# Altium schematic symbol library ETL_RB.SCHLIB: 74 symbols
Pins are listed as number, name and electrical type; pins without a type are passive.

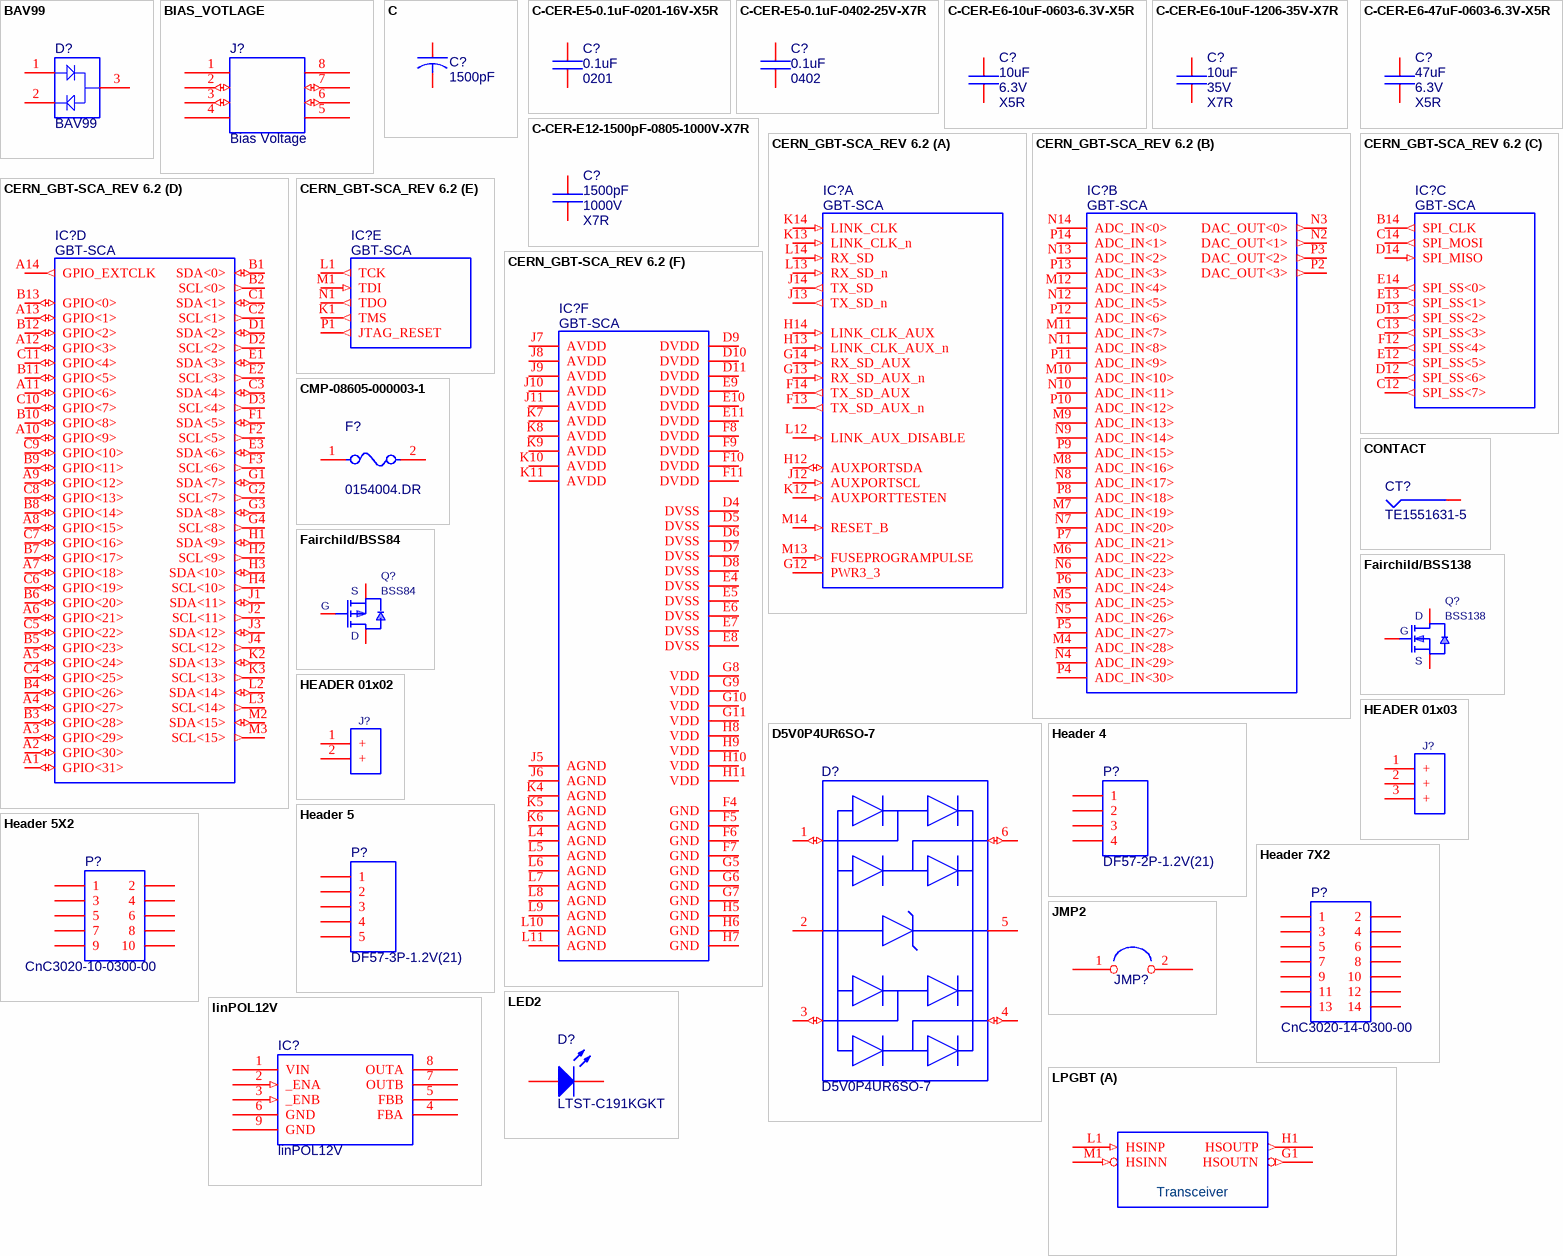
[diagram p0: symbols BAV99 to LPGBT]

## BAV99
designator D?
Silicon Switching Diode, SOT23, Reel, Green; Manufacturer: Infineon; Green: TRUE; Mounting Technology: Surface Mount; ComponentLink3URL: http://www.infineon.com/dgdl/smbta14_mmbta14.pdf?folderId=db3a30431441fb5d011445c30f210183&fileId=db3a30431441fb5d011445ef0201018c; PartNumber: BAV99; ComponentLink2Description: Datasheet; ComponentLink2URL: http://www.infineon.com/dgdl/bav99series.pdf?folderId=db3a30431400ef6801141b5844e103ea&fileId=db3a30431400ef6801141c1b237d042f; PackageVersion: Apr-08; PackageDescription: 3-Pin Small Outline Transistor Package, 1.3 x 2.9 mm Body, 0.95 mm Pitch; RevisionNote: Re-Activated Devices; ComponentLink1URL: http://www.infineon.com/; PackageReference: SOT23; ComponentLink1Description: Manufacturer URL; ComponentLink3Description: Package Specification; Packing: Reel; Manufacturer 1: Infineon; Manufacturer Part Number 1: BAV99
footprint INF-SOT23_N (SOT23, 3-Leads, Body 2.9x1.3 mm, Pitch 0.95 mm, IPC Medium Density)
footprint INF-SOT23_M (SOT23, 3-Leads, Body 2.9x1.3 mm, Pitch 0.95 mm, IPC Low Density)
footprint INF-SOT23_L (SOT23, 3-Leads, Body 2.9x1.3 mm, Pitch 0.95 mm, IPC High Density)
pins: 1 A1, 2 K2, 3 C

## BIAS_VOTLAGE
designator J?, comment Bias Voltage
footprint Bias_Voltage
pins: 1 (power), 2 (io), 3 (io), 4 (power), 5 (power), 6 (io), 7 (io), 8 (power)

## C
designator C?, comment value 1500pF  (hidden comment: C0805X7R102-152MNE)
CERAMIC CAPACITOR
footprint 1206
footprint CAPC3216N (Chip Capacitor, Body 3.2x1.6mm, IPC Medium Density)
footprint venkel0805
pins: 1, 2

## C-CER-E5-0.1uF-0201-16V-X5R
designator C?, comment Package: 0201  (hidden comment: 0.1uF)
GRM033R61C104KE84D; Voltage: 16V; TempCo: X5R; VALUE: 0.1uF
footprint C_0201_IPC
pins: 1, 2

## C-CER-E5-0.1uF-0402-25V-X7R
designator C?, comment 0.1uF  Package: 0402
GRM155R71E104ME14D; Voltage: 25V; TempCo: X7R
footprint C_0402_IPC_NOSILK
pins: 1, 2

## C-CER-E6-10uF-0603-6.3V-X5R
designator C?, comment TempCo: X5R  Voltage: 6.3V  (hidden comment: 10uF)
CAP CER 10UF 6.3V X5R 0603; Supplier 1: Digi-Key; Supplier Part Number 1: 490-16349-1-ND; VALUE: 10uF
footprint C_0603_IPC
pins: 1, 2

## C-CER-E6-10uF-1206-35V-X7R
designator C?, comment TempCo: X7R  Voltage: 35V  (hidden comment: 10uF)
CAP CER 10UF 35V X7R 1206; Supplier 1: Digi-Key; Supplier Part Number 1: 587-3007-1-ND; VALUE: 10uF
footprint C_1206_IPC (Chip Capacitor, 2-Leads, Body 3.27x1.60mm, IPC Low Density)
pins: 1, 2

## C-CER-E6-47uF-0603-6.3V-X5R
designator C?, comment 47uF  TempCo: X5R  Voltage: 6.3V
CAP CER 47UF 6.3V X5R 0603; Supplier 1: Arrow Electronics; Supplier Part Number 1: GRM188R60J476ME15D
footprint C_0603_IPC
pins: 1, 2

## C-CER-E12-1500pF-0805-1000V-X7R
designator C?, comment value 1500pF  TempCo: X7R  Voltage: 1000V  (hidden comment: C0805X7R102-152MNE)
1500 pF ±20% 1000V (1kV) Ceramic Capacitor X7R 0805 (2012 Metric); Tolerance: 20%
footprint C_0805_IPC
pins: 1, 2

## CERN_GBT-SCA_REV 6.2
designator IC?, comment GBT-SCA
The Slow Control Adapter ASIC for the GBT System; Device: GBT-SCA
footprint BGA196C80P14X14_1200X1200X170 (BGA, 0.80mm Pitch, Square; 196 Pin, 14 Columns X 14 Rows, 12.00mm X 12.00mm X 1.70mm H)
part A pins: F13 TX_SD_AUX_n (out), F14 TX_SD_AUX (out), G12 PWR3_3 (power), G13 RX_SD_AUX_n (in), G14 RX_SD_AUX (in), H12 AUXPORTSDA (io), H13 LINK_CLK_AUX_n (in), H14 LINK_CLK_AUX (in), J12 AUXPORTSCL (in), J13 TX_SD_n (out), J14 TX_SD (out), K12 AUXPORTTESTEN (in), K13 LINK_CLK_n (in), K14 LINK_CLK (in), L12 LINK_AUX_DISABLE (in), L13 RX_SD_n (in), L14 RX_SD (in), M13 FUSEPROGRAMPULSE (in), M14 RESET_B (in)
part B pins: M4 ADC_IN<28>, M5 ADC_IN<25>, M6 ADC_IN<22>, M7 ADC_IN<19>, M8 ADC_IN<16>, M9 ADC_IN<13>, M10 ADC_IN<10>, M11 ADC_IN<7>, M12 ADC_IN<4>, N2 DAC_OUT<1> (out), N3 DAC_OUT<0> (out), N4 ADC_IN<29>, N5 ADC_IN<26>, N6 ADC_IN<23>, N7 ADC_IN<20>, N8 ADC_IN<17>, N9 ADC_IN<14>, N10 ADC_IN<11>, N11 ADC_IN<8>, N12 ADC_IN<5>, N13 ADC_IN<2>, N14 ADC_IN<0>, P2 DAC_OUT<3> (out), P3 DAC_OUT<2> (out), P4 ADC_IN<30>, P5 ADC_IN<27>, P6 ADC_IN<24>, P7 ADC_IN<21>, P8 ADC_IN<18>, P9 ADC_IN<15>, P10 ADC_IN<12>, P11 ADC_IN<9>, P12 ADC_IN<6>, P13 ADC_IN<3>, P14 ADC_IN<1>
part C pins: B14 SPI_CLK (out), C12 SPI_SS<7> (out), C13 SPI_SS<3> (out), C14 SPI_MOSI (out), D12 SPI_SS<6> (out), D13 SPI_SS<2> (out), D14 SPI_MISO (in), E12 SPI_SS<5> (out), E13 SPI_SS<1> (out), E14 SPI_SS<0> (out), F12 SPI_SS<4> (out)
part D pins: A1 GPIO<31> (io), A2 GPIO<30> (io), A3 GPIO<29> (io), A4 GPIO<27> (io), A5 GPIO<24> (io), A6 GPIO<21> (io), A7 GPIO<18> (io), A8 GPIO<15> (io), A9 GPIO<12> (io), A10 GPIO<9> (io), A11 GPIO<6> (io), A12 GPIO<3> (io), A13 GPIO<1> (io), A14 GPIO_EXTCLK (out), B1 SDA<0> (io), B2 SCL<0> (out), B3 GPIO<28> (io), B4 GPIO<26> (io), B5 GPIO<23> (io), B6 GPIO<20> (io), B7 GPIO<17> (io), B8 GPIO<14> (io), B9 GPIO<11> (io), B10 GPIO<8> (io), B11 GPIO<5> (io), B12 GPIO<2> (io), B13 GPIO<0> (io), C1 SDA<1> (io), C2 SCL<1> (out), C3 SDA<4> (io), C4 GPIO<25> (io), C5 GPIO<22> (io), C6 GPIO<19> (io), C7 GPIO<16> (io), C8 GPIO<13> (io), C9 GPIO<10> (io), C10 GPIO<7> (io), C11 GPIO<4> (io), D1 SDA<2> (io), D2 SCL<2> (out), D3 SCL<4> (out), E1 SDA<3> (io), E2 SCL<3> (out), E3 SDA<6> (io), F1 SDA<5> (io), F2 SCL<5> (out), F3 SCL<6> (out), G1 SDA<7> (io), G2 SCL<7> (out), G3 SDA<8> (io), G4 SCL<8> (out), H1 SDA<9> (io), H2 SCL<9> (out), H3 SDA<10> (io), H4 SCL<10> (out), J1 SDA<11> (io), J2 SCL<11> (out), J3 SDA<12> (io), J4 SCL<12> (out), K2 SDA<13> (io), K3 SCL<13> (out), L2 SDA<14> (io), L3 SCL<14> (out), M2 SDA<15> (io), M3 SCL<15> (out)
part E pins: K1 TMS (out), L1 TCK (out), M1 TDI (in), N1 TDO (out), P1 JTAG_RESET (out)
part F pins: D4 DVSS (power), D5 DVSS (power), D6 DVSS (power), D7 DVSS (power), D8 DVSS (power), D9 DVDD (power), D10 DVDD (power), D11 DVDD (power), E4 DVSS (power), E5 DVSS (power), E6 DVSS (power), E7 DVSS (power), E8 DVSS (power), E9 DVDD (power), E10 DVDD (power), E11 DVDD (power), F4 GND (power), F5 GND (power), F6 GND (power), F7 GND (power), F8 DVDD (power), F9 DVDD (power), F10 DVDD (power), F11 DVDD (power), G5 GND (power), G6 GND (power), G7 GND (power), G8 VDD (power), G9 VDD (power), G10 VDD (power), G11 VDD (power), H5 GND (power), H6 GND (power), H7 GND (power), H8 VDD (power), H9 VDD (power), H10 VDD (power), H11 VDD (power), J5 AGND (power), J6 AGND (power), J7 AVDD (power), J8 AVDD (power), J9 AVDD (power), J10 AVDD (power), J11 AVDD (power), K4 AGND (power), K5 AGND (power), K6 AGND (power), K7 AVDD (power), K8 AVDD (power), K9 AVDD (power), K10 AVDD (power), K11 AVDD (power), L4 AGND (power), L5 AGND (power), L6 AGND (power), L7 AGND (power), L8 AGND (power), L9 AGND (power), L10 AGND (power), L11 AGND (power)

## CMP-08605-000003-1
designator F?, comment 0154004.DR
FUSE BRD MNT 4A 125VAC/VDC 2SMD; Manufacturer: Littelfuse; Fuse Blow Speed: Fast; Max Fuse Ac Voltage: 125V; Lead Free: Yes; Device Class L3: unset; Manufacturer Part Number: 0154004.DR; Device Class L2: Fuses; Package: 0154; ComponentLink2Description: Datasheet; Temperature Range Low: -55°C; Temperature Range High: +125°C; Device Class L1: Circuit Protection; Height: 3.81mm; Temperature: -55°C to +125°C; Mouser Description: Surface Mount Fuses Fuseblock w/ fuse 4A OMNI BLOK 154; Automotive: No; Digikey Description: FUSE BRD MNT 4A 125VAC/VDC 2SMD; RoHS: TRUE; Category: Fuse; Fuse Current: 4A; Max Fuse Dc Voltage: 125V; ComponentLink2URL: https://www.littelfuse.com/~/media/electronics/datasheets/fuses/littelfuse_fuse_154_154t_154l_154tl_datasheet.pdf.pdf; Octopart: https://octopart.com/0154004.dr-littelfuse-565861; Manufacturer 1: Littelfuse; Manufacturer Part Number 1: 0154004.DR
footprint FP-0154-MFG
pins: 1, 2

## CONTACT
designator CT?, comment TE1551631-5
footprint contact
pins: 1 (power)

## D5V0P4UR6SO-7
designator D?
TVS DIODE 3.3V 6V SOT26; Manufacturer: Diodes Inc.; Manufacturer 1: Diodes; Peak Pulse Power: 180W; Capacitance: 2.1pF; Value: 2.1pF; Standoff Height: 0.013mm; Breakdown Voltage: 4.5V; Direction: Unidirectional; Number Of Channels: 4; Peak Pulse Current: 45A; Octopart: https://octopart.com/d5v0p4ur6so-7-diodes+inc.-74221344; Temperature: -55°C to +85°C; ComponentLink2URL: https://www.diodes.com/assets/Datasheets/D5V0P4UR6SO.pdf; Height: 1.4mm; ComponentLink2Description: Datasheet; Device Class L3: unset; Manufacturer Part Number: D5V0P4UR6SO-7; Category: Diode; Reverse Standoff Voltage: 3.3V; Footprint Url: https://www.diodes.com/assets/Package-Files/SOT26-SC74R.pdf; Automotive: No; Temperature Range High: +85°C; Clamping Voltage: 6V; Digikey Description: TVS DIODE 3.3V 6V SOT26; RoHS: TRUE; Package: SOT26 (SC74R); Device Class L1: Circuit Protection; Lead Free: Yes; Temperature Range Low: -55°C; Device Class L2: TVS Diodes; Manufacturer Part Number 1: D5V0P4UR6SO-7
footprint FP-SOT26_SC74R-MFG
footprint FP-SOT26_SC74R-IPC_C
footprint FP-SOT26_SC74R-IPC_B
footprint FP-SOT26_SC74R-IPC_A
pins: 1 I/O 1 (io), 2 VSS (power), 3 I/O 2 (io), 4 I/O 3 (io), 5 VCC (power), 6 I/O 4 (io)

## Fairchild/BSS84
designator Q?, comment BSS84
Trans, pFET, -50V, -130mA, SOT-23; Manufacturer: ON Semiconductor; Manufacturer Part Number: BSS84LT1G; FET Type: MOSFET P-Channel, Metal Oxide; FET Feature: Standard; Drain to Source Voltage (Vdss): 50V; Current - Continuous Drain (Id) @ 25°C: 130mA (Ta); Rds On (Max) @ Id, Vgs: 10 Ohm @ 100mA, 5V; Vgs(th) (Max) @ Id: 2V @ 250µA; Input Capacitance (Ciss) @ Vds: 30pF @ 5V; Power - Max: 225mW; Supplier 1: Digi-Key; RoHS: RoHS Compliant; Category: Discrete Semiconductor Products; Stock 1: 95021; Pricing 1: 1=0.34, 10=0.281, 100=0.1491, 500=0.09804, 1000=0.0668 (USD); Packaging: Cut Tape (CT); Part Status: Active; Gate Charge (Qg) @ Vgs: -; Operating Temperature: -55°C ~ 150°C (TJ); Mounting Type: Surface Mount; Package / Case: TO-236-3, SC-59, SOT-23-3; Supplier Device Package: SOT-23-3 (TO-236); ComponentLink1URL: http://www.onsemi.com/pub_link/Collateral/BSS84LT1-D.PDF; ComponentLink1Description: http://www.onsemi.com/pub_link/Collateral/BSS84LT1-D.PDF; Supplier Part Number 1: BSS84LT1GOSCT-ND
footprint SOT23 (SOT23, 3-Leads, Body 2.92x2.37mm, Pitch 0.95mm, IPC Medium Density)
pins: 1 G, 2 S, 3 D

## Fairchild/BSS138
designator Q?, comment BSS138
Trans, nFet, 50V, 220mA, SOT-23; Manufacturer: Fairchild Semiconductor; FET Type: MOSFET N-Channel, Metal Oxide; FET Feature: Logic Level Gate; Current - Continuous Drain (Id) @ 25°C: 220mA (Ta); Rds On (Max) @ Id, Vgs: 3.5 Ohm @ 220mA, 10V; Vgs(th) (Max) @ Id: 1.5V @ 1mA; Gate Charge (Qg) @ Vgs: 2.4nC @ 10V; Input Capacitance (Ciss) @ Vds: 27pF @ 25V; Power - Max: 360mW; Supplier 1: Digi-Key; Manufacturer Part Number: BSS138; RoHS: RoHS Compliant; Category: Discrete Semiconductor Products; Stock 1: 524637; Pricing 1: 1=0.22, 10=0.178, 100=0.0945, 500=0.06214, 1000=0.04234 (USD); Packaging: Cut Tape (CT); Drain to Source Voltage (Vdss): 50V; Operating Temperature: -55°C ~ 150°C (TJ); Mounting Type: Surface Mount; Package / Case: TO-236-3, SC-59, SOT-23-3; Supplier Device Package: SOT-23-3; ComponentLink1URL: http://www.fairchildsemi.com/datasheets/BS/BSS138.pdf; ComponentLink1Description: http://www.fairchildsemi.com/datasheets/BS/BSS138.pdf; Supplier 2: Newark; Supplier Part Number 1: BSS138CT-ND; Supplier Part Number 2: 58K8769
footprint SOT23 (SOT23, 3-Leads, Body 2.92x2.37mm, Pitch 0.95mm, IPC Medium Density)
pins: 1 G, 2 S, 3 D

## HEADER 01x02
designator J?  (value not drawn)
Header, 01x02, 100 mil, PTH
footprint HEADER 01x02
pins: 1 +, 2 +

## HEADER 01x03
designator J?  (value not drawn)
Header, 01x03, 100 mil, PTH
footprint HEADER 01x03
pins: 1 +, 2 +, 3 +

## Header 4
designator P?, comment DF57-2P-1.2V(21)
Header, 4-Pin; LatestRevisionDate: 17-Jul-2002; LatestRevisionNote: Re-released for DXP Platform.; Publisher: Altium Limited
footprint HDR1X4 (Connector; Header; 4 Position)
signal-integrity model Connector
footprint BF57-2 (Footprint not found)
footprint DF57-2
pins: 1, 2, 3, 4

## Header 5
designator P?, comment DF57-3P-1.2V(21)
Header, 5-Pin; LatestRevisionDate: 17-Jul-2002; LatestRevisionNote: Re-released for DXP Platform.; Publisher: Altium Limited
footprint HDR1X5 (Connector; Header; 5 Position)
signal-integrity model Connector
footprint DF57-3
footprint df52-3
footprint DF57-3
pins: 1, 2, 3, 4, 5

## Header 5X2
designator P?, comment CnC3020-10-0300-00
Header, 5-Pin, Dual row; LatestRevisionDate: 17-Jul-2002; LatestRevisionNote: Re-released for DXP Platform.; Publisher: Altium Limited
footprint HDR2X5 (Connector; Header; 5x2 Position)
signal-integrity model Connector
footprint cnc10
pins: 1, 2, 3, 4, 5, 6, 7, 8, 9, 10

## Header 7X2
designator P?, comment CnC3020-14-0300-00
Header, 7-Pin, Dual row; LatestRevisionDate: 17-Jul-2002; LatestRevisionNote: Re-released for DXP Platform.; Publisher: Altium Limited
footprint HDR2X7 (Connector; Header; 7x2 Position)
signal-integrity model Connector
footprint cnc14
pins: 1, 2, 3, 4, 5, 6, 7, 8, 9, 10, 11, 12, 13, 14

## JMP2
designator JMP?, comment Not a component, printed on PCB  (value not drawn)  (no BOM)
printed on PCB
footprint JMP2
footprint JMP2B
footprint JMP2PCB
pins: 1, 2

## LED2
designator D?, comment LTST-C191KGKT
Typical RED, GREEN, YELLOW, AMBER GaAs LED; Published: 8-Jun-2000; LatestRevisionDate: 17-Jul-2002; LatestRevisionNote: Re-released for DXP Platform.; PackageVersion: Feb-2002; PackageReference: 3.2X1.6X1.1; Publisher: Altium Limited; PackageDescription: SM LED; 2 Flat Leads
footprint 3.2X1.6X1.1 (SMT LED; 2 Flat Leads)
simulation model LED2 (Diode)
footprint LED_RED (LTST-C194KRKT)
pins: 1 A, 2 K

## linPOL12V
designator IC?
footprint WDFNX208
pins: 1 VIN (power), 2 _ENA (in), 3 _ENB (in), 4 FBA, 5 FBB, 6 GND (power), 7 OUTB (power), 8 OUTA (power), 9 GND (power)

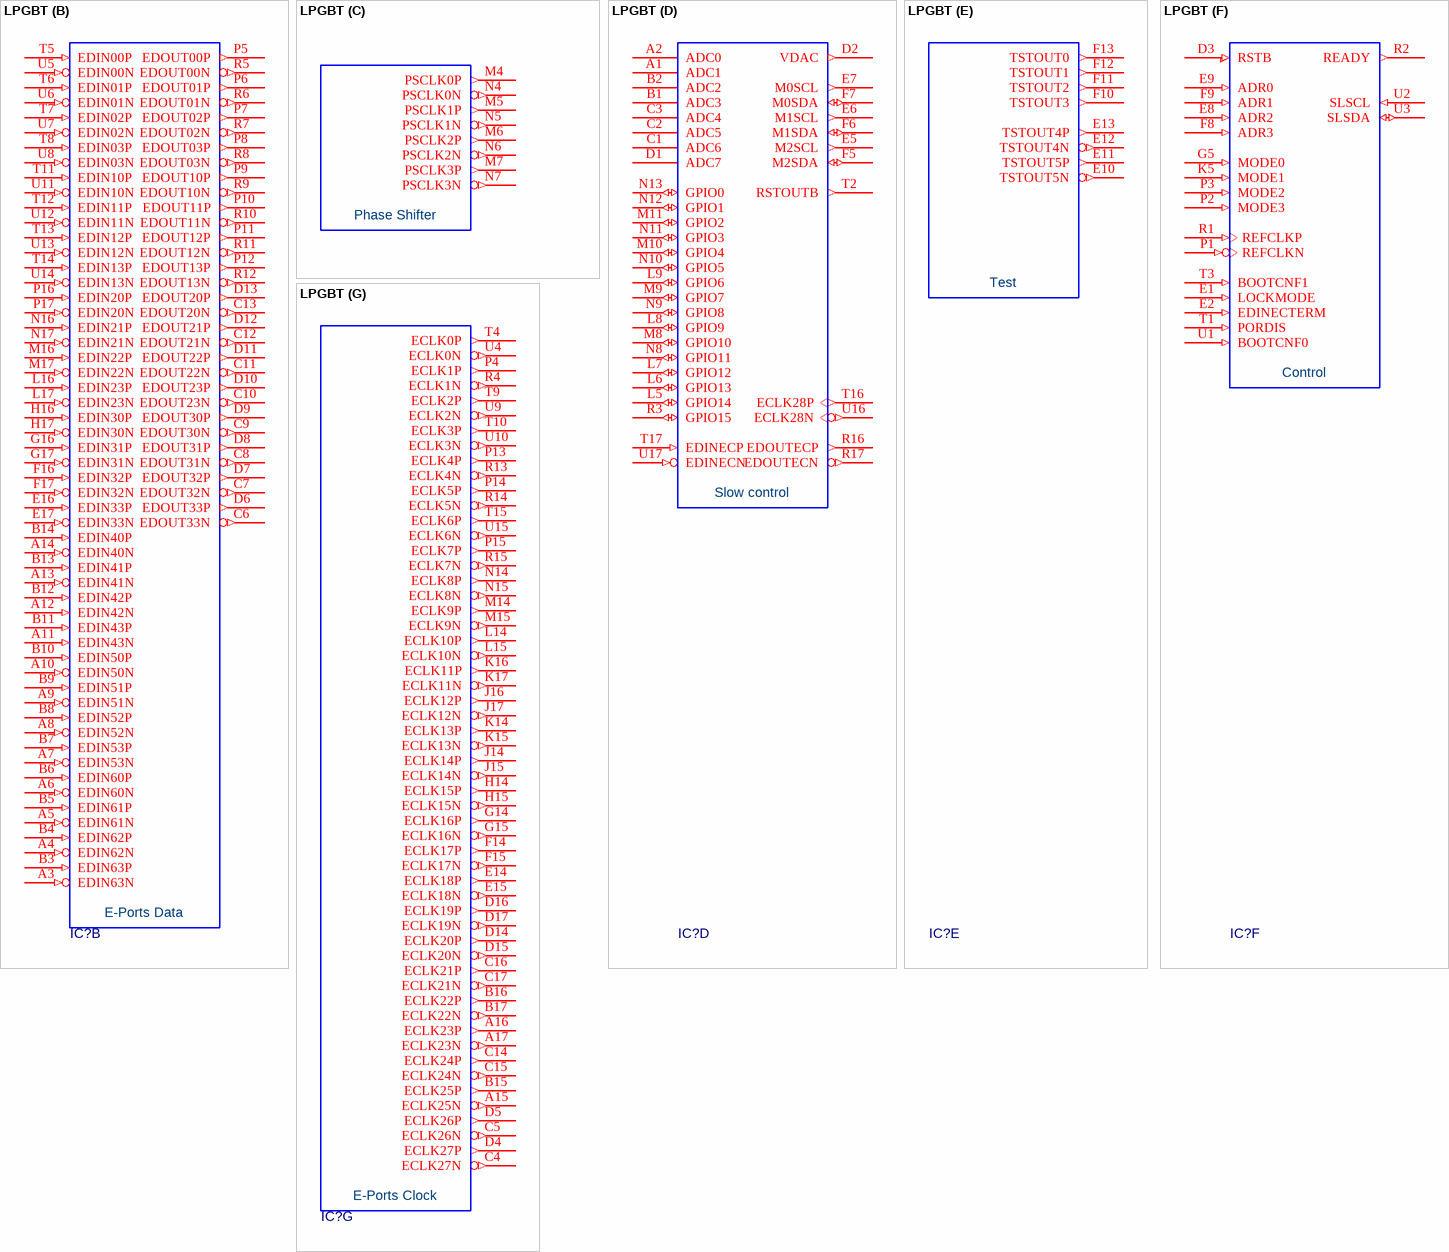
[diagram p1: symbol LPGBT]

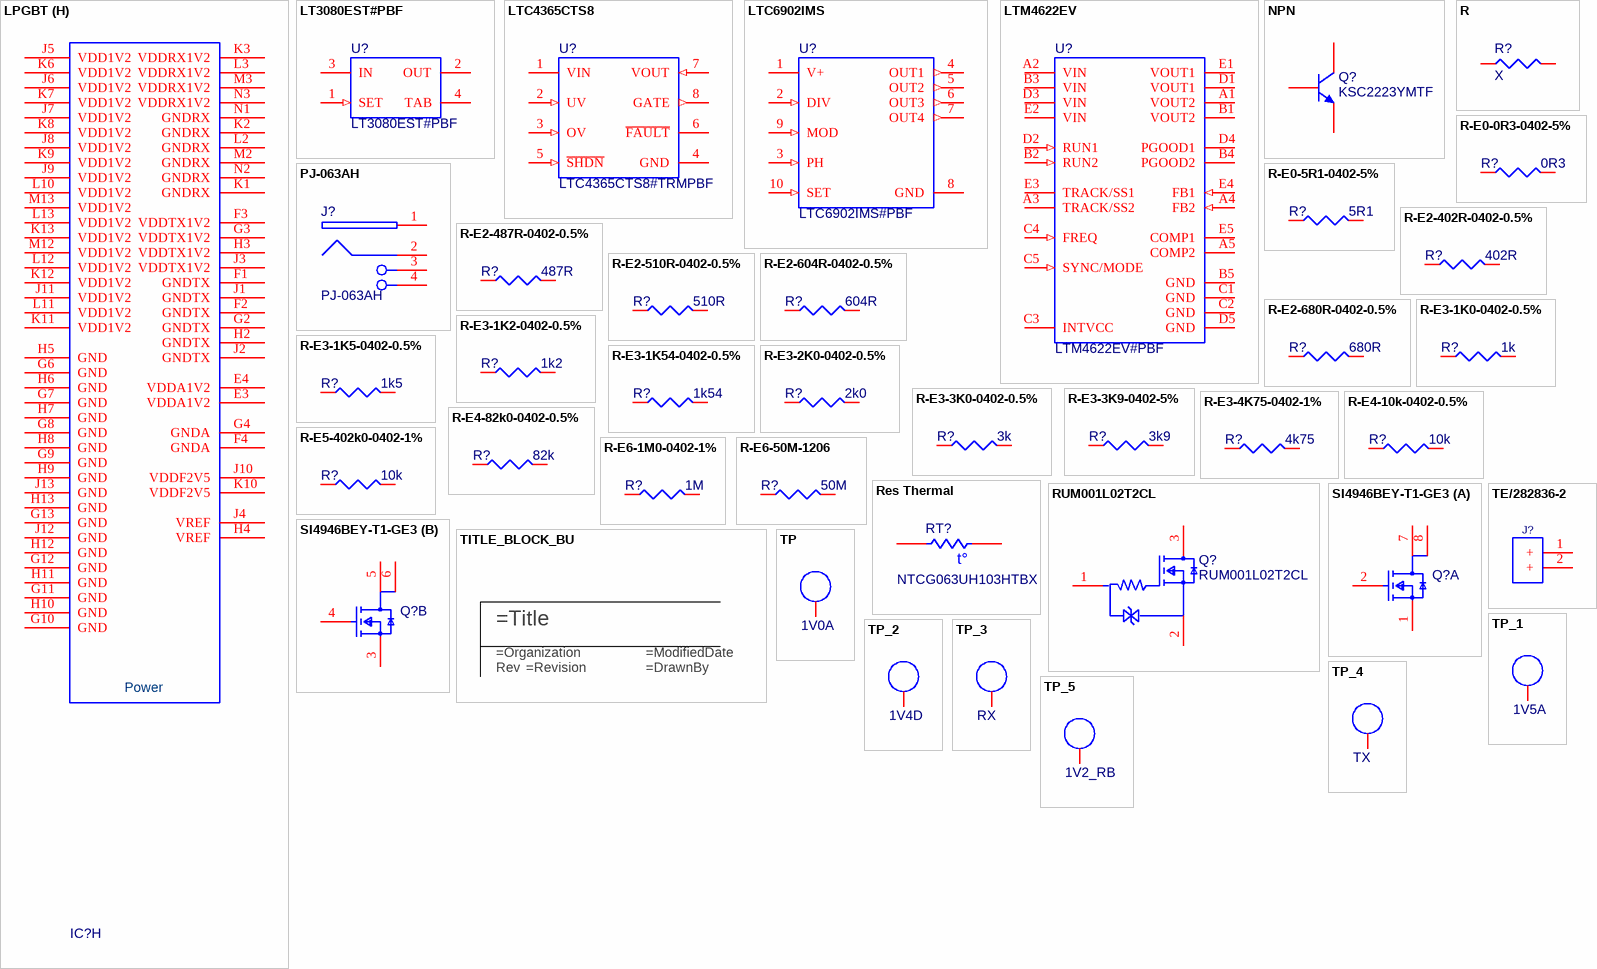
[diagram p2: symbols LPGBT to TP_5]

## LPGBT
designator IC?  (value not drawn)
Low Power Gigabit Transceiver; Manufacturer: CERN; Pinout Version: 180226; Bonding: No; Device: LPGBT; Manufacturer Part Number: LPGBT; SMD: Yes; Mounted: Yes; LatestRevisionDate: 26.10.2018; PackageDescription: BGA, 289-Leads, Body 9.00x9.00mmx1.28mm, Pitch 0.50mm; Part Description: Low Power Gigabit Transceiver; Case: BGA289; Part Number: LPGBT; Pin Count: 289; Socket: No; Component Kind: Standard; Component Type: Standard; Footprint: BGA289C50P17X17_900X900X128
footprint BGA289C50P17X17_900X900X128 (BGA, 289-Leads, Body 9.00x9.00mmx1.28mm, Pitch 0.50mm)
footprint BGA289X17
part A pins: G1 HSOUTN (out) "Transceiver Output", H1 HSOUTP (out) "Transceiver Output", L1 HSINP (in) "Transceiver Input", M1 HSINN (in) "Transceiver Input"
part B pins: A3 EDIN63N (in), A4 EDIN62N (in), A5 EDIN61N (in), A6 EDIN60N (in), A7 EDIN53N (in), A8 EDIN52N (in), A9 EDIN51N (in), A10 EDIN50N (in), A11 EDIN43N (in), A12 EDIN42N (in), A13 EDIN41N (in), A14 EDIN40N (in), B3 EDIN63P (in), B4 EDIN62P (in), B5 EDIN61P (in), B6 EDIN60P (in), B7 EDIN53P (in), B8 EDIN52P (in), B9 EDIN51P (in), B10 EDIN50P (in), B11 EDIN43P (in), B12 EDIN42P (in), B13 EDIN41P (in), B14 EDIN40P (in), C6 EDOUT33N (out), C7 EDOUT32N (out), C8 EDOUT31N (out), C9 EDOUT30N (out), C10 EDOUT23N (out), C11 EDOUT22N (out), C12 EDOUT21N (out), C13 EDOUT20N (out), D6 EDOUT33P (out), D7 EDOUT32P (out), D8 EDOUT31P (out), D9 EDOUT30P (out), D10 EDOUT23P (out), D11 EDOUT22P (out), D12 EDOUT21P (out), D13 EDOUT20P (out), E16 EDIN33P (in), E17 EDIN33N (in), F16 EDIN32P (in), F17 EDIN32N (in), G16 EDIN31P (in), G17 EDIN31N (in), H16 EDIN30P (in), H17 EDIN30N (in), L16 EDIN23P (in), L17 EDIN23N (in), M16 EDIN22P (in), M17 EDIN22N (in), N16 EDIN21P (in), N17 EDIN21N (in), P5 EDOUT00P (out), P6 EDOUT01P (out), P7 EDOUT02P (out), P8 EDOUT03P (out), P9 EDOUT10P (out), P10 EDOUT11P (out), P11 EDOUT12P (out), P12 EDOUT13P (out), P16 EDIN20P (in), P17 EDIN20N (in), R5 EDOUT00N (out), R6 EDOUT01N (out), R7 EDOUT02N (out), R8 EDOUT03N (out), R9 EDOUT10N (out), R10 EDOUT11N (out), R11 EDOUT12N (out), R12 EDOUT13N (out), T5 EDIN00P (in), T6 EDIN01P (in), T7 EDIN02P (in), T8 EDIN03P (in), T11 EDIN10P (in), T12 EDIN11P (in), T13 EDIN12P (in), T14 EDIN13P (in), U5 EDIN00N (in), U6 EDIN01N (in), U7 EDIN02N (in), U8 EDIN03N (in), U11 EDIN10N (in), U12 EDIN11N (in), U13 EDIN12N (in), U14 EDIN13N (in)
part C pins: M4 PSCLK0P (out) "Phase shifter", M5 PSCLK1P (out) "Phase shifter", M6 PSCLK2P (out) "Phase shifter", M7 PSCLK3P (out) "Phase shifter", N4 PSCLK0N (out) "Phase shifter", N5 PSCLK1N (out) "Phase shifter", N6 PSCLK2N (out) "Phase shifter", N7 PSCLK3N (out) "Phase shifter"
part D pins: A1 ADC1 "ADC Input", A2 ADC0 "ADC Input", B1 ADC3 "ADC Input", B2 ADC2 "ADC Input", C1 ADC6 "ADC Input", C2 ADC5 "ADC Input", C3 ADC4 "ADC Input", D1 ADC7 "ADC Input", D2 VDAC (out) "DAC output", E5 M2SCL (out) "I2C Master", E6 M1SCL (out) "I2C Master", E7 M0SCL (out) "I2C Master", F5 M2SDA (io) "I2C Master", F6 M1SDA (io) "I2C Master", F7 M0SDA (io) "I2C Master", L5 GPIO14 (io), L6 GPIO13 (io), L7 GPIO12 (io), L8 GPIO9 (io), L9 GPIO6 (io), M8 GPIO10 (io), M9 GPIO7 (io), M10 GPIO4 (io), M11 GPIO2 (io), N8 GPIO11 (io), N9 GPIO8 (io), N10 GPIO5 (io), N11 GPIO3 (io), N12 GPIO1 (io), N13 GPIO0 (io), R3 GPIO15 (io), R16 EDOUTECP (out), R17 EDOUTECN (out), T2 RSTOUTB (out), T16 ECLK28P (out), T17 EDINECP (in), U16 ECLK28N (out), U17 EDINECN (in)
part E pins: E10 TSTOUT5N (out), E11 TSTOUT5P (out), E12 TSTOUT4N (out), E13 TSTOUT4P (out), F10 TSTOUT3 (out), F11 TSTOUT2 (out), F12 TSTOUT1 (out), F13 TSTOUT0 (out)
part F pins: D3 RSTB (in) "Reset", E1 LOCKMODE (in), E2 EDINECTERM (in), E8 ADR2 (in), E9 ADR0 (in), F8 ADR3 (in), F9 ADR1 (in), G5 MODE0 (in), K5 MODE1 (in), P1 REFCLKN (in), P2 MODE3 (in), P3 MODE2 (in), R1 REFCLKP (in), R2 READY (out), T1 PORDIS (in), T3 BOOTCNF1 (in), U1 BOOTCNF0 (in), U2 SLSCL (in) "I2C Slave", U3 SLSDA (io) "I2C Slave"
part G pins: A15 ECLK25N (out), A16 ECLK23P (out), A17 ECLK23N (out), B15 ECLK25P (out), B16 ECLK22P (out), B17 ECLK22N (out), C4 ECLK27N (out), C5 ECLK26N (out), C14 ECLK24P (out), C15 ECLK24N (out), C16 ECLK21P (out), C17 ECLK21N (out), D4 ECLK27P (out), D5 ECLK26P (out), D14 ECLK20P (out), D15 ECLK20N (out), D16 ECLK19P (out), D17 ECLK19N (out), E14 ECLK18P (out), E15 ECLK18N (out), F14 ECLK17P (out), F15 ECLK17N (out), G14 ECLK16P (out), G15 ECLK16N (out), H14 ECLK15P (out), H15 ECLK15N (out), J14 ECLK14P (out), J15 ECLK14N (out), J16 ECLK12P (out), J17 ECLK12N (out), K14 ECLK13P (out), K15 ECLK13N (out), K16 ECLK11P (out), K17 ECLK11N (out), L14 ECLK10P (out), L15 ECLK10N (out), M14 ECLK9P (out), M15 ECLK9N (out), N14 ECLK8P (out), N15 ECLK8N (out), P4 ECLK1P (out), P13 ECLK4P (out), P14 ECLK5P (out), P15 ECLK7P (out), R4 ECLK1N (out), R13 ECLK4N (out), R14 ECLK5N (out), R15 ECLK7N (out), T4 ECLK0P (out), T9 ECLK2P (out), T10 ECLK3P (out), T15 ECLK6P (out), U4 ECLK0N (out), U9 ECLK2N (out), U10 ECLK3N (out), U15 ECLK6N (out)
part H pins: E3 VDDA1V2 (power) "ADC supply", E4 VDDA1V2 (power) "ADC supply", F1 GNDTX (power) "Transmitter reference", F2 GNDTX (power) "Transmitter reference", F3 VDDTX1V2 (power) "Transmitter supply", F4 GNDA (power) "ADC reference", G2 GNDTX (power) "Transmitter reference", G3 VDDTX1V2 (power) "Transmitter supply", G4 GNDA (power) "ADC reference", G6 GND (power) "Core reference", G7 GND (power) "Core reference", G8 GND (power) "Core reference", G9 GND (power) "Core reference", G10 GND (power) "I/O reference", G11 GND (power) "I/O reference", G12 GND (power) "I/O reference", G13 GND (power) "I/O reference", H2 GNDTX (power) "Transmitter reference", H3 VDDTX1V2 (power) "Transmitter supply", H4 VREF (power) "ADC reference", H5 GND (power) "Core reference", H6 GND (power) "Core reference", H7 GND (power) "Core reference", H8 GND (power) "Core reference", H9 GND (power) "Core reference", H10 GND (power) "I/O reference", H11 GND (power) "I/O reference", H12 GND (power) "I/O reference", H13 GND (power) "I/O reference", J1 GNDTX (power) "Transmitter reference", J2 GNDTX (power) "Transmitter reference", J3 VDDTX1V2 (power) "Transmitter supply", J4 VREF (power) "ADC reference", J5 VDD1V2 (power) "Core supply", J6 VDD1V2 (power) "Core supply", J7 VDD1V2 (power) "Core supply", J8 VDD1V2 (power) "Core supply", J9 VDD1V2 (power) "Core supply", J10 VDDF2V5 (power) "Efuse supply", J11 VDD1V2 (power) "I/O supply", J12 GND (power) "I/O reference", J13 GND (power) "I/O reference", K1 GNDRX (power) "Receiver reference", K2 GNDRX (power) "Receiver reference", K3 VDDRX1V2 (power) "Receiver supply", K6 VDD1V2 (power) "Core supply", K7 VDD1V2 (power) "Core supply", K8 VDD1V2 (power) "Core supply", K9 VDD1V2 (power) "Core supply", K10 VDDF2V5 (power) "Efuse supply", K11 VDD1V2 (power) "I/O supply", K12 VDD1V2 (power) "I/O supply", K13 VDD1V2 (power) "I/O supply", L2 GNDRX (power) "Receiver reference", L3 VDDRX1V2 (power) "Receiver supply", L10 VDD1V2 (power) "I/O supply", L11 VDD1V2 (power) "I/O supply", L12 VDD1V2 (power) "I/O supply", L13 VDD1V2 (power) "I/O supply", M2 GNDRX (power) "Receiver reference", M3 VDDRX1V2 (power) "Receiver supply", M12 VDD1V2 (power) "I/O supply", M13 VDD1V2 (power) "I/O supply", N1 GNDRX (power) "Receiver reference", N2 GNDRX (power) "Receiver reference", N3 VDDRX1V2 (power) "Receiver supply"
part A text: Transceiver
part B text: E-Ports Data
part C text: Phase Shifter
part D text: Slow control
part E text: Test
part F text: Control
part G text: E-Ports Clock
part H text: Power

## LT3080EST#PBF
designator U?
Adjustable 1.1 A Single Resistor Low Dropout Regulator, 0.3 mA Isupply, 3-pin SOT223 (ST-3), -40 to 125 degC, Pb-Free; Manufacturer: Linear Technology; Manufacturer 1: Analog Devices / Linear Technology; Initial Accuracy(%): 1; Vin Max(V): 36; Vin Min(V): 1.2; Extended Temp: E, I; Isupply(mA): 0.3; Mounting Technology: Surface Mount; DatasheetVersion: Rev. F; ComponentLink1URL: http://www.linear.com/; PartNumber: LT3080EST#PBF; ComponentLink2Description: Datasheet; ComponentLink3URL: http://cds.linear.com/docs/en/packaging/SOT_3_05-08-1630.pdf; PackageDescription: 3-Pin Plastic SOT-223, Body 3.505 x 6.505 mm, Pitch 2.3 mm; PackageVersion: Jun-10; ComponentLink2URL: http://cds.linear.com/docs/en/datasheet/3080fc.pdf; RoHS: TRUE; ComponentLink3Description: Package Specification; PackageReference: ST-3; ComponentLink1Description: Manufacturer URL; Manufacturer Part Number 1: LT3080EST#PBF
footprint LT-ST-3-SOT-223_N (SOT223, 4-Leads, Body 6.505x3.505mm, Pitch 2.3mm, IPC Medium Density)
footprint LT-ST-3-SOT-223_M (SOT223, 4-Leads, Body 6.505x3.505mm, Pitch 2.3mm, IPC Low Density)
footprint LT-ST-3-SOT-223_L (SOT223, 4-Leads, Body 6.505x3.505mm, Pitch 2.3mm, IPC High Density)
pins: 1 SET (in) "This pin is the error amplifier’s noninverting input and also sets the operating bias point of the circuit. A fixed 10uA current source flows out of this pin. Two resistors program IOUT as a function of the resistor rati(See Datasheet)", 2 OUT (power) "This is the power output of the device. The minimum current source value to which the device can be set is 0.5mA or the device will not regulate.", 3 IN (power) "This pin supplies power to bias internal circuitry and supply output load current. For the device to operate properly and regulate, the voltage on this pin must be 1.2V to 1.4V above the OUT pin (depending on output load (See Datasheet)", 4 TAB (power)

## LTC4365CTS8
designator U?, comment LTC4365CTS8#TRMPBF
UV, OV and Reverse Supply Protection Controller, 2.5 to 34 V Vin, 8-pin SOT23 (TS8-8), 0 to 70 degC, Pb-Free, Mini Tape and Reel; Manufacturer: Linear Technology; Manufacturer 1: Analog Devices / Linear Technology; Active Limiting: no; Circuit Breakers(#): 1; Fault: yes; Extended Temp: C, I, H; PackageVersion: Rev. A, 08/2010; ComponentLink2URL: http://cds.linear.com/docs/en/datasheet/4365f.pdf; Mounting Technology: Surface Mount; PackageReference: TS8-8; Reset: no; Foldback: no; ComponentLink1URL: http://www.linear.com/; ComponentLink3Description: Package Specification; Power Good: no; ComponentLink3URL: http://cds.linear.com/docs/en/packaging/SOT_8_05-08-1637.pdf; Fast Comparator: no; PackageDescription: 8-Pin Plastic TSOT-23, Body 2.9 x 1.63 mm, Pitch 0.65 mm; Packing: Mini Tape and Reel; PartNumber: LTC4365CTS8#TRMPBF; ComponentLink1Description: Manufacturer URL; ComponentLink2Description: Datasheet; Vin Range: 2.5 to 34 V; Code_JEDEC: MO-193; RoHS: TRUE; Manufacturer Part Number 1: LTC4365CTS8#TRMPBF
footprint LT-TS8-8-TSOT-23_V (SOT23, 8-Leads, Body 2.9x1.75mm, Pitch 0.65mm)
pins: 1 VIN (power) "Power Supply Input. Maximum protection range: -40V to 60V. Operating range: 2.5V to 34V.", 2 UV (in) "Undervoltage Comparator Input. Connect this pin to an external resistive divider to set the desired VIN undervoltage fault threshold. Input to an accurate, fast (1us) comparator with a 0.5V falling threshold and 25mV of (See Datasheet)", 3 OV (in) "Overvoltage Comparator Input. Connect this pin to an external resistive divider to set the desired VIN overvoltage fault threshold. Input to an accurate, fast (1us) comparator with a 0.5V rising threshold and 25mV of (See Datasheet)", 4 GND (power) "Device Ground", 5 ~{SHDN} (in) "Shutdown Control Input. S\H\D\N\ high enables the GATE charge pump which in turn enhances the gate of an external N-channel MOSFET. A low on S\H\D\N\ generates a pull down on the GATE output with a 90uA current sink and (See Datasheet)", 6 ~{FAULT} (oc) "Fault Indication Output. This high voltage open drain output is pulled low if UV is below its monitor threshold, if OV is above its monitor threshold, if S\H\D\N\ is low, or if VIN has not risen above VIN(UVLO).", 7 VOUT (in) "Output Voltage Sense Input. This pin senses the voltage at the output side of the external N-channel MOSFET. The GATE charge pump voltage is referenced to VOUT. It is used as the charge pump input when VOUT is greater than (See Datasheet)", 8 GATE (out) "Gate Drive Output for External N-channel MOSFETs. An internal charge pump provides 20uA of pull-up current and up to 9.8V of enhancement to the gate of an external N-channel MOSFET When turned off, GATE is pulled just below (See Datasheet)"

## LTC6902IMS
designator U?, comment LTC6902IMS#PBF
IC OSC SILICON PROG 10MSOP; Manufacturer: Analog Devices; Manufacturer 1: Analog Devices / Linear Technology; Min Supply Voltage: 2.7V; Standoff Height: 0.0508mm; Max Supply Voltage: 5.5V; Number Of Timers/Counters: 1; Frequency: 20MHz; Max Junction Temp: +150°C; Nominal Supply Current: 0.2-2.5mA; Automotive: No; Temperature Range Low: -40°C; Footprint Url: https://www.analog.com/media/en/package-pcb-resources/package/pkg_pdf/ltc-legacy-msop/05081661_F_MS.pdf; Package: MS-10-05-08-1661; ComponentLink2Description: Datasheet; Category: IC; ComponentLink2URL: https://www.analog.com/media/en/technical-documentation/data-sheets/6902f.pdf; RoHS: TRUE; Device Class L2: Clock and Timing; Temperature: -40°C to +85°C; Temperature Range High: +85°C; Lead Free: Yes; Device Class L1: Integrated Circuits (ICs); Ipc Land Pattern Name: SOP50P490X110-10; Height: 1.1mm; Device Class L3: Timers and Oscillators; Manufacturer Part Number: LTC6902IMS#PBF; Digikey Description: IC OSC SILICON PROG 10MSOP; Octopart: https://octopart.com/ltc6902ims%23pbf-analog+devices-88320276; Manufacturer Part Number 1: LTC6902IMS#PBF
footprint FP-MS-10-05-08-1661-MFG
footprint FP-MS-10-05-08-1661-IPC_C
footprint FP-MS-10-05-08-1661-IPC_B
footprint FP-MS-10-05-08-1661-IPC_A
pins: 1 V+ (power), 2 DIV (in), 3 PH (in), 4 OUT1 (out), 5 OUT2 (out), 6 OUT3 (out), 7 OUT4 (out), 8 GND (power), 9 MOD (in), 10 SET (in)

## LTM4622EV
designator U?, comment LTM4622EV#PBF
Dual Ultrathin Step-Down DC/DC uModule Regulator, 2.5 A, 3.6 to 20 V, -40 to 125 degC, 25-Pin LGA, RoHS, Tray; Manufacturer: LinearTechnology; Manufacturer 1: Linear Technology/Analog Devices; Voltage - Input (Min): 3.6V; Voltage - Output 1: 0.6~5.5V; Package Version: Rev. 0, 06/2013; Current - Output (Max): 2.5A; Number of Outputs: 1; Voltage - Input (Max): 20V; Type: Non-IsolatedPoLModule; Power (Watts) - Max: -; Mounting Technology: SurfaceMount; Applications: ITE(Commercial); Series: µModule®; Category: PowerSupplies-BoardMount; Package Description: 25-Pin LGA, Body 6.25 x 6.25 mm, Pitch 1.27 mm; Package / Case: 25-LGA; Size / Dimension: 0.25"Lx0.25"Wx0.07"H(6.3mmx6.3mmx1.8mm); Family: DCDCConverters; Mounting Type: SurfaceMount; Datasheet Version: Rev. B, 01/2016; Manufacturer URL: http://www.linear.com/; Operating Temperature: -40°C~125°C; Efficiency: -; Voltage - Output 2: -; Power (Watts) - Manufacture Series: -; Features: OCP,OTP,OVP; Packaging: Tray; Package URL: http://www.linear.com/docs/43379; Package Reference: LGA-25; Datasheet URL: http://cds.linear.com/docs/en/datasheet/4622fb.pdf; Voltage - Isolation: -; Voltage - Output 3: -; Manufacturer Part Number 1: LTM4622EV#PBF
footprint LT-LGA-25-6250X6250X1820_V (LGA, 25-Leads, Body 6.25x6.25mm, Pitch 1.27mm)
pins: A1 VOUT2 (power) "Power Output Pins. Apply output load between these pins and GND pins. Recommend placing output decoupling capacitance directly between these pins and GND pins.", A2 VIN (power) "Power Input Pins. Apply input voltage between these pins and GND pins. Recommend placing input decoupling capacitance directly between VIN pins and GND pins.", A3 TRACK/SS2, A4 FB2 (in) "The Negative Input of the Error Amplifier. Internally, this pin is connected to VOUT with a 60.4k precision resistor. Different output voltages can be programmed with an additional resistor between the FB and SGND pins. (See (See Datasheet)", A5 COMP2 "Current Control Threshold and Error Amplifier Compensation Point. The current comparator’s trip threshold is linearly proportional to this voltage, whose normal range is from 0.3V to 1.8V. Tie the COMP pins together fo(Se(See Datasheet)", B1 VOUT2 (power) "Power Output Pins. Apply output load between these pins and GND pins. Recommend placing output decoupling capacitance directly between these pins and GND pins.", B2 RUN2 (in) "Run Control Input of the Switching Mode Regulator. Enables chip operation by tying RUN above 1.2V. Pulling it below 1.1V shuts down the part. Do not leave floating.", B3 VIN (power) "Power Input Pins. Apply input voltage between these pins and GND pins. Recommend placing input decoupling capacitance directly between VIN pins and GND pins.", B4 PGOOD2 (oc) "Output Power Good with Open-Drain Logic. PGOOD is pulled to ground when the voltage on the FB pin is not within +/-10% of the internal 0.6V reference.", B5 GND (power) "Power Ground Pins for Both Input and Output Returns.", C1 GND (power) "Power Ground Pins for Both Input and Output Returns.", C2 GND (power) "Power Ground Pins for Both Input and Output Returns.", C3 INTVCC (power) "Internal 3.3V Regulator Output. The internal power drivers and control circuits are powered from this voltage. This pin is internally decoupled to GND with a 1uF low ESR ceramic capacitor", C4 FREQ (in) "Frequency is set internally to 1MHz. An external resistor can be placed from this pin to SGND to increase frequency, or from this pin to INTVCC to reduce frequency. See the Applications Information section for frequency (See (See Datasheet)", C5 SYNC/MODE (in), D1 VOUT1 (power) "Power Output Pins. Apply output load between these pins and GND pins. Recommend placing output decoupling capacitance directly between these pins and GND pins.", D2 RUN1 (in) "Run Control Input of the Switching Mode Regulator. Enables chip operation by tying RUN above 1.2V. Pulling it below 1.1V shuts down the part. Do not leave floating.", D3 VIN (power) "Power Input Pins. Apply input voltage between these pins and GND pins. Recommend placing input decoupling capacitance directly between VIN pins and GND pins.", D4 PGOOD1 (oc) "Output Power Good with Open-Drain Logic. PGOOD is pulled to ground when the voltage on the FB pin is not within +/-10% of the internal 0.6V reference.", D5 GND (power) "Power Ground Pins for Both Input and Output Returns.", E1 VOUT1 (power) "Power Output Pins. Apply output load between these pins and GND pins. Recommend placing output decoupling capacitance directly between these pins and GND pins.", E2 VIN (power) "Power Input Pins. Apply input voltage between these pins and GND pins. Recommend placing input decoupling capacitance directly between VIN pins and GND pins.", E3 TRACK/SS1, E4 FB1 (in) "The Negative Input of the Error Amplifier. Internally, this pin is connected to VOUT with a 60.4k precision resistor. Different output voltages can be programmed with an additional resistor between the FB and SGND pins. (See (See Datasheet)", E5 COMP1 "Current Control Threshold and Error Amplifier Compensation Point. The current comparator’s trip threshold is linearly proportional to this voltage, whose normal range is from 0.3V to 1.8V. Tie the COMP pins together fo(Se(See Datasheet)"

## NPN
designator Q?, comment KSC2223YMTF
NPN Bipolar Transistor; Published: 8-Jun-2000; LatestRevisionDate: 17-Jul-2002; LatestRevisionNote: Re-released for DXP Platform.; PackageReference: TO-226-AA; Publisher: Altium Limited; PackageDescription: TO, Flat Index; 3 In-Line, Axial Leads; Body Dia. 4.8mm; Leads 0.55 x 0.51 mm (max); Code_JEDEC: TO-226-AA
footprint TO-226-AA (TO, Flat Index; 3 In-Line, Axial Leads; Body Dia. 4.8mm; Leads 0.55 x 0.51 mm (max))
simulation model NPN
signal-integrity model NPN
footprint SOT-23
pins: 1 C, 2 B, 3 E

## PJ-063AH
designator J?
Through Hole Right Angle DC Power Jack, 8 A, 2 mm Center Pin, 2 Position, -25 to 85 degC, RoHS, Bulk; Manufacturer: CUIInc.; Voltage Rating: 24V; Current Rating: 8A; Inside Contact Diameter: 2mm; Insulation Resistance: 100MOhms; Outside Contact Diameter: 6.5mm; Brand: CUI; Termination Style: ThroughHole; Flammability Rating: UL94V-0; Datasheet Version: Rev. 1.02, 03/2016; Manufacturer URL: http://www.cui.com/; Product Category: DCPowerConnectors; Package Description: 2-Pin Through Hole Device, Body 13 x 10 mm, Height 9 mm; Connector Type: DCPowerJack; Factory Pack Quantity: 500; Contact Plating: Nickel; Mounting Style: KinkedPin; Contact Material: Copper; RoHS: True; Mounting Angle: Right; Package Reference: PJ-063AH; Product: Jacks; Contact Gender: Male; Datasheet URL: http://www.cui.com/product/resource/pj-063ah.pdf; Housing Material: PolybutyleneTerephthalate(PBT); Mounting Technology: ThroughHole; Operating Temperature Range: -25Cto+85C; Manufacturer 1: CUI; Manufacturer Part Number 1: PJ-063AH
footprint CUI-PJ-063AH_V (THD, 2-Leads, Body 13x10mm, Height 9mm)
pins: 1, 2, 3 SHLD, 4 SHLD

## R
designator R?, comment X
FILM RESISTOR; Text Field2: 5%; Parameter 1: X
footprint 0805
footprint r0402 (Resistor, Chip, 1005 [0402], RLP#100A)
footprint resc1005n (Chip Resistor, Body 1.1x0.5mm, IPC Medium Density)
pins: 1, 2

## R-E0-0R3-0402-5%
designator R?, comment 0R3
RES 0.3 OHM 5% 1/6W 0402; Part Number: RR0510P-102-D
footprint resc1005n (Chip Resistor, Body 1.1x0.5mm, IPC Medium Density)
footprint R_0402_IPC
pins: 1, 2

## R-E0-5R1-0402-5%
designator R?, comment 5R1
RES SMD 5.1 OHM 5% 1/10W 0402
footprint R_0402_IPC
pins: 1, 2

## R-E2-402R-0402-0.5%
designator R?, comment 402R
RES SMD 402 OHM 0.5% 1/16W 0402; Part Number: RR0510P-4020-D
footprint R_0402_IPC
pins: 1, 2

## R-E2-487R-0402-0.5%
designator R?, comment 487R
RES SMD 487 OHM 0.5% 1/16W 0402; Part Number: RR0510P-4870-D
footprint R_0402_IPC
pins: 1, 2

## R-E2-510R-0402-0.5%
designator R?, comment 510R
RES SMD 510 OHM 0.5% 1/16W 0402; Part Number: RR0510P-511-D
footprint R_0402_IPC
pins: 1, 2

## R-E2-604R-0402-0.5%
designator R?, comment 604R
RES SMD 604 OHM 0.5% 1/16W 0402; Part Number: RR0510P-6040-D
footprint R_0402_IPC
pins: 1, 2

## R-E2-680R-0402-0.5%
designator R?, comment 680R
RES SMD 680 OHM 0.5% 1/16W 0402; Part Number: RR0510P-102-D
footprint R_0402_IPC
pins: 1, 2

## R-E3-1K0-0402-0.5%
designator R?, comment 1k
RES SMD 1K OHM 0.5% 1/16W 0402; Part Number: RR0510P-102-D
footprint R_0402_IPC
pins: 1, 2

## R-E3-1K2-0402-0.5%
designator R?, comment 1k2
RES SMD 1.2K OHM 0.5% 1/16W 0402; Part Number: RR0510P-122-D
footprint R_0402_IPC
pins: 1, 2

## R-E3-1K5-0402-0.5%
designator R?, comment 1k5
RES SMD 1.5K OHM 0.5% 1/16W 0402; Part Number: RR0510P-152-D
footprint R_0402_IPC
pins: 1, 2

## R-E3-1K54-0402-0.5%
designator R?, comment 1k54
RES SMD 1.54K OHM 0.5% 1/16W 0402; Part Number: RR0510P-1541-D
footprint R_0402_IPC
pins: 1, 2

## R-E3-2K0-0402-0.5%
designator R?, comment 2k0
RES SMD 2.0K OHM 0.5% 1/16W 0402; Part Number: RR0510P-202-D
footprint R_0402_IPC
pins: 1, 2

## R-E3-3K0-0402-0.5%
designator R?, comment 3k
RES SMD 3.0K OHM 0.5% 1/16W 0402; Part Number: RR0510P-302-D
footprint R_0402_IPC
pins: 1, 2

## R-E3-3K9-0402-5%
designator R?, comment 3k9
RES SMD 3.9K OHM 5% 1/16W 0402
footprint R_0402_IPC
pins: 1, 2

## R-E3-4K75-0402-1%
designator R?, comment 4k75
RES SMD 4.75K OHM 1% 1/10W 0402; Part Number: ERJ-2RKF4751X0402
footprint R_0402_IPC
pins: 1, 2

## R-E4-10k-0402-0.5%
designator R?, comment 10k
RES SMD 1.2K OHM 0.5% 1/16W 0402; Part Number: RR0510P-103-D
footprint R_0402_IPC
pins: 1, 2

## R-E4-82k0-0402-0.5%
designator R?, comment 82k
RES SMD 82k OHM 0.5% 1/16W 0402; Part Number: RR0510P-823-D
footprint R_0402_IPC
pins: 1, 2

## R-E5-402k0-0402-1%
designator R?, comment 10k
RES SMD 402K OHM 1% 1/16W 0402; Part Number: RR0510P-103-D
footprint R_0402_IPC
pins: 1, 2

## R-E6-1M0-0402-1%
designator R?, comment 1M
RES SMD 1M OHM 1% 1/16W 0402; Part Number: ERJ-2RKF4751X0402
footprint R_0402_IPC
pins: 1, 2

## R-E6-50M-1206
designator R?, comment 50M
HVC1206T5005JET
footprint RESC3216N (Chip Resistor, Body 3.2x1.6mm, IPC Medium Density)
pins: 1, 2

## Res Thermal
designator RT?, comment NTCG063UH103HTBX
Thermistor; Published: 24-Mar-1999; LatestRevisionDate: 29-May-2009; LatestRevisionNote: IPC-7351 Footprint Added.; PackageVersion: Mar-2003; PackageReference: 6-0805; Publisher: Altium Limited; PackageDescription: Chip Resistor 0805 Case Size; Code_IPC: RESC2012
footprint 6-0805_N (Chip Resistor, Body 2.0x1.2mm, IPC Medium Density)
footprint 6-0805_L (Chip Resistor, Body 2.0x1.2mm, IPC High Density)
footprint 6-0805_M (Chip Resistor, Body 2.0x1.2mm, IPC Low Density)
footprint resc0603
pins: 1, 2
text: t°

## RUM001L02T2CL
designator Q?
MOSFET N-CH 20V 0.1A VMT3; Manufacturer: ROHM Semiconductor; Manufacturer 1: Rohm; Threshold Vgs Min: 0.3V; Power Dissipation: 150mW; Standoff Height: 0mm; Max Forward Diode Voltage: 1.2V; Number Of N Channels: 1; Input Capacitace At Vds: 7.1pF @ 10V; Gate To Source Voltage: 8V; Pulse Drain Current: 400mA; Depletion Mode: False; Rthja Max: 833°C/W; Turn On Delay Time: 5ns; Turn Off Delay Time: 20ns; Max Junction Temp: +150°C; Threshold Vgs Max: 1V; Continuous Drain Current: 100mA; Drain To Source Resistance: 2.5Ω; Mouser Description: MOSFET; Temperature Range High: +150°C; Height: 0.55mm; Device Class L3: MOSFETs; Manufacturer Part Number: RUM001L02T2CL; Octopart: https://octopart.com/rum001l02t2cl-rohm-24403092; ComponentLink2Description: Datasheet; Drain To Source Voltage: 20V; Footprint Url: https://d1d2qsbl8m0m72.cloudfront.net/en/techdata_basic/transistor/dimension/VMT3_Dimension.pdf; Number Of Channels: 1; Device Class L1: Discrete Semiconductors; Category: Trans; Device Class L2: Transistors; Lead Free: Yes; Automotive: No; Package: VMT3; Temperature Range Low: -55°C; ComponentLink2URL: https://d1d2qsbl8m0m72.cloudfront.net/en/products/databook/datasheet/discrete/transistor/mosfet/rum001l02t2cl-e.pdf; Digikey Description: MOSFET N-CH 20V 0.1A VMT3; Drain To Source Breakdown Voltage: 20V; RoHS: TRUE; Temperature: -55°C to +150°C; Manufacturer Part Number 1: RUM001L02T2CL
footprint FP-VMT3-MFG
pins: 1 Gate, 2 Source, 3 Drain

## SI4946BEY-T1-GE3
designator Q?  (value not drawn)
MOSFET 2N-CH 60V 6.5A 8-SOIC; Manufacturer: Vishay; Manufacturer 1: Vishay Siliconix; Number Of N Channels: 2; Turn On Delay Time: 10ns; Gate Charge At Vgs: 17nC @ 10V; Continuous Drain Current: 5.3A; Typ Forward Diode Voltage: 0.8V; Pulse Drain Current: 30A; Max Junction Temp: +175°C; Transconductance: 24S; Depletion Mode: False; Rthja Max: 50°C/W; Standoff Height: 0.1mm; Power Dissipation: 2.4W; Reverse Recovery Charge: 25nC; Input Capacitace At Vds: 840pF @ 30V; Gate To Source Voltage: 20V; Max Forward Diode Voltage: 1.2V; Threshold Vgs Min: 1V; Reverse Recovery Time: 25ns; Drain To Source Resistance: 0.033Ω; Threshold Vgs Max: 3V; Temperature: -55°C to +175°C; Temperature Range Low: -55°C; ComponentLink2URL: http://www.vishay.com/docs/73411/si4946be.pdf; Octopart: https://octopart.com/si4946bey-t1-ge3-vishay-45530440; Temperature Range High: +175°C; Digikey Description: MOSFET 2N-CH 60V 6.5A 8-SOIC; Device Class L2: Transistors; Automotive: No; Drain To Source Voltage: 60V; Manufacturer Part Number: SI4946BEY-T1-GE3; Number Of Channels: 2; Mouser Description: MOSFET 60V 6.5A 3.7W 41mohm @ 10V; ComponentLink2Description: Datasheet; Lead Free: Yes; Device Class L1: Discrete Semiconductors; Category: Trans; Device Class L3: MOSFETs; RoHS: TRUE; Drain To Source Breakdown Voltage: 60V; Height: 1.75mm; Package: C-06527; Turn Off Delay Time: 25ns; Manufacturer Part Number 1: SI4946BEY-T1-GE3
footprint FP-C-06527-MFG
footprint FP-C-06527-IPC_C
footprint FP-C-06527-IPC_B
footprint FP-C-06527-IPC_A
part A pins: 1 S1, 2 G1, 7 D1, 8 D1
part B pins: 3 S2, 4 G2, 5 D2, 6 D2

## TE/282836-2
designator J?  (value not drawn)
TERM, Screw, 2x1; Supplier 1: Newark; Supplier 2: Digi-Key; Supplier Part Number 1: 23C9697; Supplier Part Number 2: A98076-ND
footprint Terminal Block 2POS (TE 282836-2)
pins: 1 +, 2 +

## TITLE_BLOCK_BU
designator TBLOCK?, comment BU Title block  (value not drawn)  (graphical)
text: Rev

## TP
designator TP?, comment 1V0A  (no BOM)
TEST POINT 40MIL DIA.
footprint TESTPOINT
footprint testpoint
footprint TESTPOINT
pins: 1 TP

## TP_1
designator TP?, comment 1V5A  (no BOM)
TEST POINT 40MIL DIA.
footprint TESTPOINT
footprint testpoint
footprint TESTPOINT
pins: 1 TP

## TP_2
designator TP?, comment 1V4D  (no BOM)
TEST POINT 40MIL DIA.
footprint TESTPOINT
footprint testpoint
footprint TESTPOINT
pins: 1 TP

## TP_3
designator TP?, comment RX  (no BOM)
TEST POINT 40MIL DIA.
footprint TESTPOINT
footprint testpoint
footprint TESTPOINT
pins: 1 TP

## TP_4
designator TP?, comment TX  (no BOM)
TEST POINT 40MIL DIA.
footprint TESTPOINT
footprint testpoint
footprint TESTPOINT
pins: 1 TP

## TP_5
designator TP?, comment 1V2_RB  (no BOM)
TEST POINT 40MIL DIA.
footprint TESTPOINT
footprint testpoint
footprint TESTPOINT
pins: 1 TP

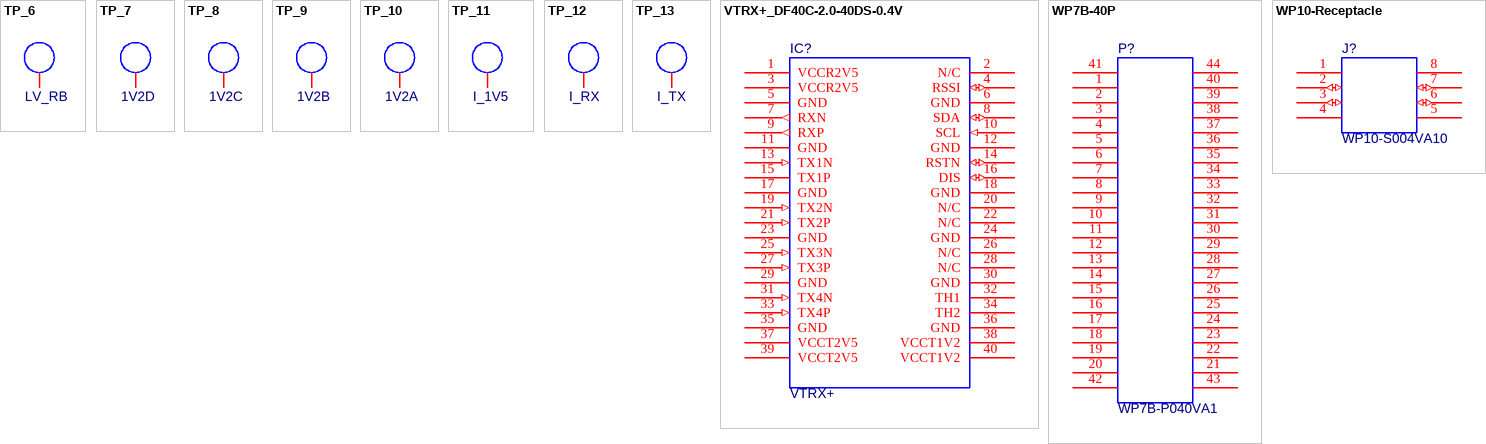
[diagram p3: symbols TP_6 to WP10-Receptacle]

## TP_6
designator TP?, comment LV_RB  (no BOM)
TEST POINT 40MIL DIA.
footprint TESTPOINT
footprint testpoint
footprint TESTPOINT
pins: 1 TP

## TP_7
designator TP?, comment 1V2D  (no BOM)
TEST POINT 40MIL DIA.
footprint TESTPOINT
footprint testpoint
footprint TESTPOINT
pins: 1 TP

## TP_8
designator TP?, comment 1V2C  (no BOM)
TEST POINT 40MIL DIA.
footprint TESTPOINT
footprint testpoint
footprint TESTPOINT
pins: 1 TP

## TP_9
designator TP?, comment 1V2B  (no BOM)
TEST POINT 40MIL DIA.
footprint TESTPOINT
footprint testpoint
footprint testpoint
footprint TESTPOINT
pins: 1 TP

## TP_10
designator TP?, comment 1V2A  (no BOM)
TEST POINT 40MIL DIA.
footprint TESTPOINT
footprint testpoint
footprint TESTPOINT
pins: 1 TP

## TP_11
designator TP?, comment I_1V5  (no BOM)
TEST POINT 40MIL DIA.
footprint TESTPOINT
footprint testpoint
footprint TESTPOINT
pins: 1 TP

## TP_12
designator TP?, comment I_RX  (no BOM)
TEST POINT 40MIL DIA.
footprint TESTPOINT
footprint testpoint
footprint TESTPOINT
pins: 1 TP

## TP_13
designator TP?, comment I_TX  (no BOM)
TEST POINT 40MIL DIA.
footprint TESTPOINT
footprint testpoint
footprint TESTPOINT
pins: 1 TP

## VTRX+_DF40C-2.0-40DS-0.4V
designator IC?, comment Parameter 1: VTRX+  (hidden comment: DF40C-40DS-0.4V)
VTRX+ module with 2.5mm stack Height.
footprint EDL-VTRX+ Module
footprint vtrx+
pins: 1 VCCR2V5 (power), 2 N/C, 3 VCCR2V5 (power), 4 RSSI (io), 5 GND, 6 GND, 7 RXN (out), 8 SDA (io), 9 RXP (out), 10 SCL (in), 11 GND, 12 GND, 13 TX1N (in), 14 RSTN (io), 15 TX1P, 16 DIS (io), 17 GND, 18 GND, 19 TX2N (in), 20 N/C, 21 TX2P (in), 22 N/C, 23 GND, 24 GND, 25 TX3N (in), 26 N/C, 27 TX3P (in), 28 N/C, 29 GND, 30 GND, 31 TX4N (in), 32 TH1, 33 TX4P (in), 34 TH2, 35 GND, 36 GND, 37 VCCT2V5 (power), 38 VCCT1V2 (power), 39 VCCT2V5 (power), 40 VCCT1V2 (power)

## WP7B-40P
designator P?, comment WP7B-P040VA1
plug
footprint wp7b-40p
pins: 1, 2, 3, 4, 5, 6, 7, 8, 9, 10, 11, 12, 13, 14, 15, 16, 17, 18, 19, 20, 21, 22, 23, 24, 25, 26, 27, 28, 29, 30, 31, 32, 33, 34, 35, 36, 37, 38, 39, 40, 41, 42, 43, 44

## WP10-Receptacle
designator J?, comment WP10-S004VA10
footprint WP10_Receptacle
pins: 1 (power), 2 (io), 3 (io), 4 (power), 5 (power), 6 (io), 7 (io), 8 (power)